# Altium integrated library EEEFP1V221AP.IntLib: 1 symbol
Pins are listed as number, name and electrical type; pins without a type are passive.

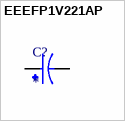
[diagram p0: symbol EEEFP1V221AP]

## EEEFP1V221AP
designator C?
220ÂµF 35V Aluminum Electrolytic Capacitors Radial, Can - SMD 80mOhm @ 100kHz 2000 Hrs @ 105Â°C; MF: Panasonic Electronic; MP: EEE-FP1V221AP; SnapEDA_Link: https://www.snapeda.com/parts/EEE-FP1V221AP/Panasonic/view-part/?ref=snap; Package: RADIAL-2 Panasonic; Value: *; Check_prices: https://www.snapeda.com/parts/EEE-FP1V221AP/Panasonic/view-part/?ref=eda
footprint CAP_EEEFP1V221AP
pins: 1, 2